# EAGLE library part LTC4313-* (library Analog Devices)
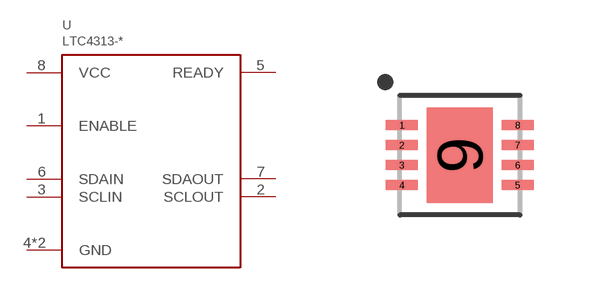
[diagram p13: symbol with the pads of DFN8; footprint DFN8]

Designator prefix U

## LTC4313-1, LTC4313-2, LTC4313-3  [DFN8]
1  ENABLE
2  SCLOUT
3  SCLIN
4  GND
5  READY
6  SDAIN
7  SDAOUT
8  VCC
9  GND

## Footprint DFN8 (pad centres in mm)
smd 0.8 x 0.25: 1 -1.45,0.75; 2 -1.45,0.25; 3 -1.45,-0.25; 4 -1.45,-0.75; 5 1.45,-0.75; 6 1.45,-0.25; 7 1.45,0.25; 8 1.45,0.75
smd 1.65 x 2.38: 9 0,0